# Altium schematic symbol library Res Pack.SchLib: 1 symbol
Pins are listed as number, name and electrical type; pins without a type are passive.

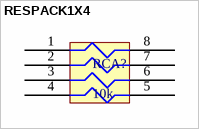
[diagram p0: symbol RESPACK1X4]

## RESPACK1X4
designator RCA?, comment 10k
pins: 1, 2, 3, 4, 5, 6, 7, 8